# Altium schematic symbol library mcpLib.SchLib: 7 symbols
Pins are listed as number, name and electrical type; pins without a type are passive.

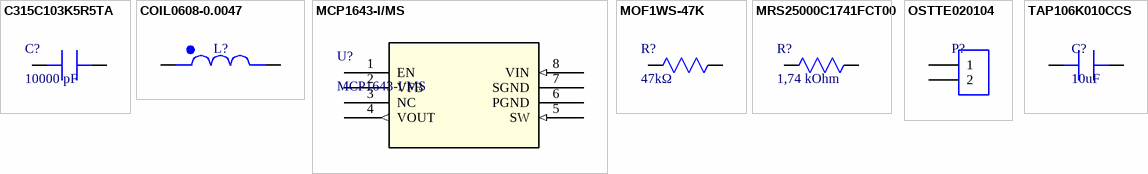
[diagram p0: symbols C315C103K5R5TA to TAP106K010CCS]

## C315C103K5R5TA
designator C?, comment 10000 pF
10000 pF ±10% 50V Ceramic Capacitor X7R Radial; Mfr_Name: Kemet; Manufacturer_Part_Number: C315C103K5R5TA; Type: DEV; Copyright: Copyright (C) 2022 Ultra Librarian. All rights reserved.; Digi-Key_Part_Number_1: 399-4148-ND; RefDes: RefDes
footprint CAP_C315_KEM
pins: 1, 2

## COIL0608-0.0047
designator L?, comment 4.7uH  (value not drawn)
Inductor: wire; THT; 4.7uH; Ioper: 5A; 22.94mΩ; ±20%; Ø7.5x9.5mm
footprint INDRD500W70D900H1220
pins: 1 +, 2 -

## MCP1643-I/MS
designator U?
Switching Voltage Regulators 0.65V-5V input LED Driver; Mfr_Name: Microchip; Copyright: Copyright (C) 2022 Ultra Librarian. All rights reserved.; Manufacturer_Part_Number: MCP1643-I/MS; Digi-Key_Part_Number_1: MCP1643-I/MS-ND; RefDes: RefDes; Type: DEV
footprint MSOP8_MC_MCH
pins: 1 EN, 2 VFB, 3 NC, 4 VOUT (out), 5 SW (in), 6 PGND (power), 7 SGND (power), 8 VIN (in)

## MOF1WS-47K
designator R?, comment 47kΩ
Resistor: metal oxide; THT; 47kΩ; 1W; ±5%; Ø3.2x9mm; axial; Mfr_Name: MOF1WS-47K; Copyright: Copyright (C) 2022 Ultra Librarian. All rights reserved.; Manufacturer_Part_Number: MOF1WS-47K
footprint MOF1WS-47K
pins: 1, 2

## MRS25000C1741FCT00
designator R?, comment 1,74 kOhm
1.74 kOhms ±1% 0.6W Through Hole Resistor Axial Metal Film; Mfr_Name: Vishay; Manufacturer_Part_Number: MRS25000C1741FCT00; Copyright: Copyright (C) 2022 Ultra Librarian. All rights reserved.; Digi-Key_Part_Number_1: MRS25000C1741FCT00-ND; Digi-Key_Part_Number_2: 56-MRS25000C1741FCT00CT-ND; Digi-Key_Part_Number_3: 56-MRS25000C1741FCT00TB-ND; RefDes: RefDes; Type: DEV
footprint RES_MRS25_VIS
pins: 1, 2

## OSTTE020104
designator P?, comment 2x1 terminal block  (value not drawn)
2 Position Wire to Board Terminal Block Horizontal with Board 0.138 _3.50mm_ Through Hole; MF: On Shore; MP: OSTTE020104; Digi-Key_Purchase_URL: https://www.digikey.com/product-detail/en/on-shore-technology-inc/OSTTE020104/ED2740-ND/2351816?utm_source=snapeda&utm_medium=aggregator&utm_campaign=symbol; Value: *; Package: None; Digi-Key_Part_Number: ED2740-ND; SnapEDA_Link: https://www.snapeda.com/parts/OSTTE020104/On%20Shore%20Technology%20Inc./view-part/274621/?ref=snap
footprint OST_OSTTE020104
pins: 1, 2

## TAP106K010CCS
designator C?, comment 10uF
Tantalum Capacitors - Solid Leaded 10V 10uF 10% ESR=5 Ohm; Manufacturer: Kyocera AVX; Manufacturer Part Number: TAP106K010CCS; ESR (Equivalent Series Resistance): 5R; Leakage Current: 800nA; Polarity: Polar; Dissipation Factor: 8%; Life (Hours): 1000Hour; Lead Diameter: 0.5mm; Supplier 1: Digi-Key; RoHS: Yes; Category: Tantalum Capacitors; Stock 1: 1597; Pricing 1: 1=0,75000, 10=0,52800, 50=0,39920, 100=0,34780, 500=0,25760, 1000=0,21896, 2500=0,20608, 5000=0,19320 (USD); Mount: Through Hole; Case/Package: Dipped; Min Operating Temperature: -55°C; Max Operating Temperature: 125°C; Capacitance: 10uF; Package Quantity: 1000; Packaging: Bulk; Voltage Rating: 10V; Tolerance: 10%; Voltage Rating (DC): 10V; Termination: Radial; Features: General Purpose; Series: TAP; Construction: RADIAL; Diameter: 5mm; Length: 10mm; Lead Pitch: 5mm; Height - Seated (Max): 0.394inch; Radiation Hardening: No; Lead Free: Lead Free; RoHS Compliant: Yes; ComponentLink1URL: https://datasheet.ciiva.com/10693/tap-10693337.pdf?src-supplier=Avnet; ComponentLink1Description: https://datasheet.ciiva.com/10693/tap-10693337.pdf?src-supplier=Avnet; ComponentLink2URL: https://datasheet.ciiva.com/15162/getdatasheetpartid-29362-15162954.pdf?src-supplier=Verical; ComponentLink2Description: https://datasheet.ciiva.com/15162/getdatasheetpartid-29362-15162954.pdf?src-supplier=Verical; ComponentLink3URL: https://datasheet.ciiva.com/16493/tap-16493258.pdf?src-supplier=Future+Electronics; ComponentLink3Description: https://datasheet.ciiva.com/16493/tap-16493258.pdf?src-supplier=Future+Electronics; Supplier Part Number 1: 478-9320-ND
footprint FB_28C0236-0JW-10
pins: 1 +, 2